# Altium integrated library NSC Switcher.IntLib: 2027 symbols (part 50 of 54)
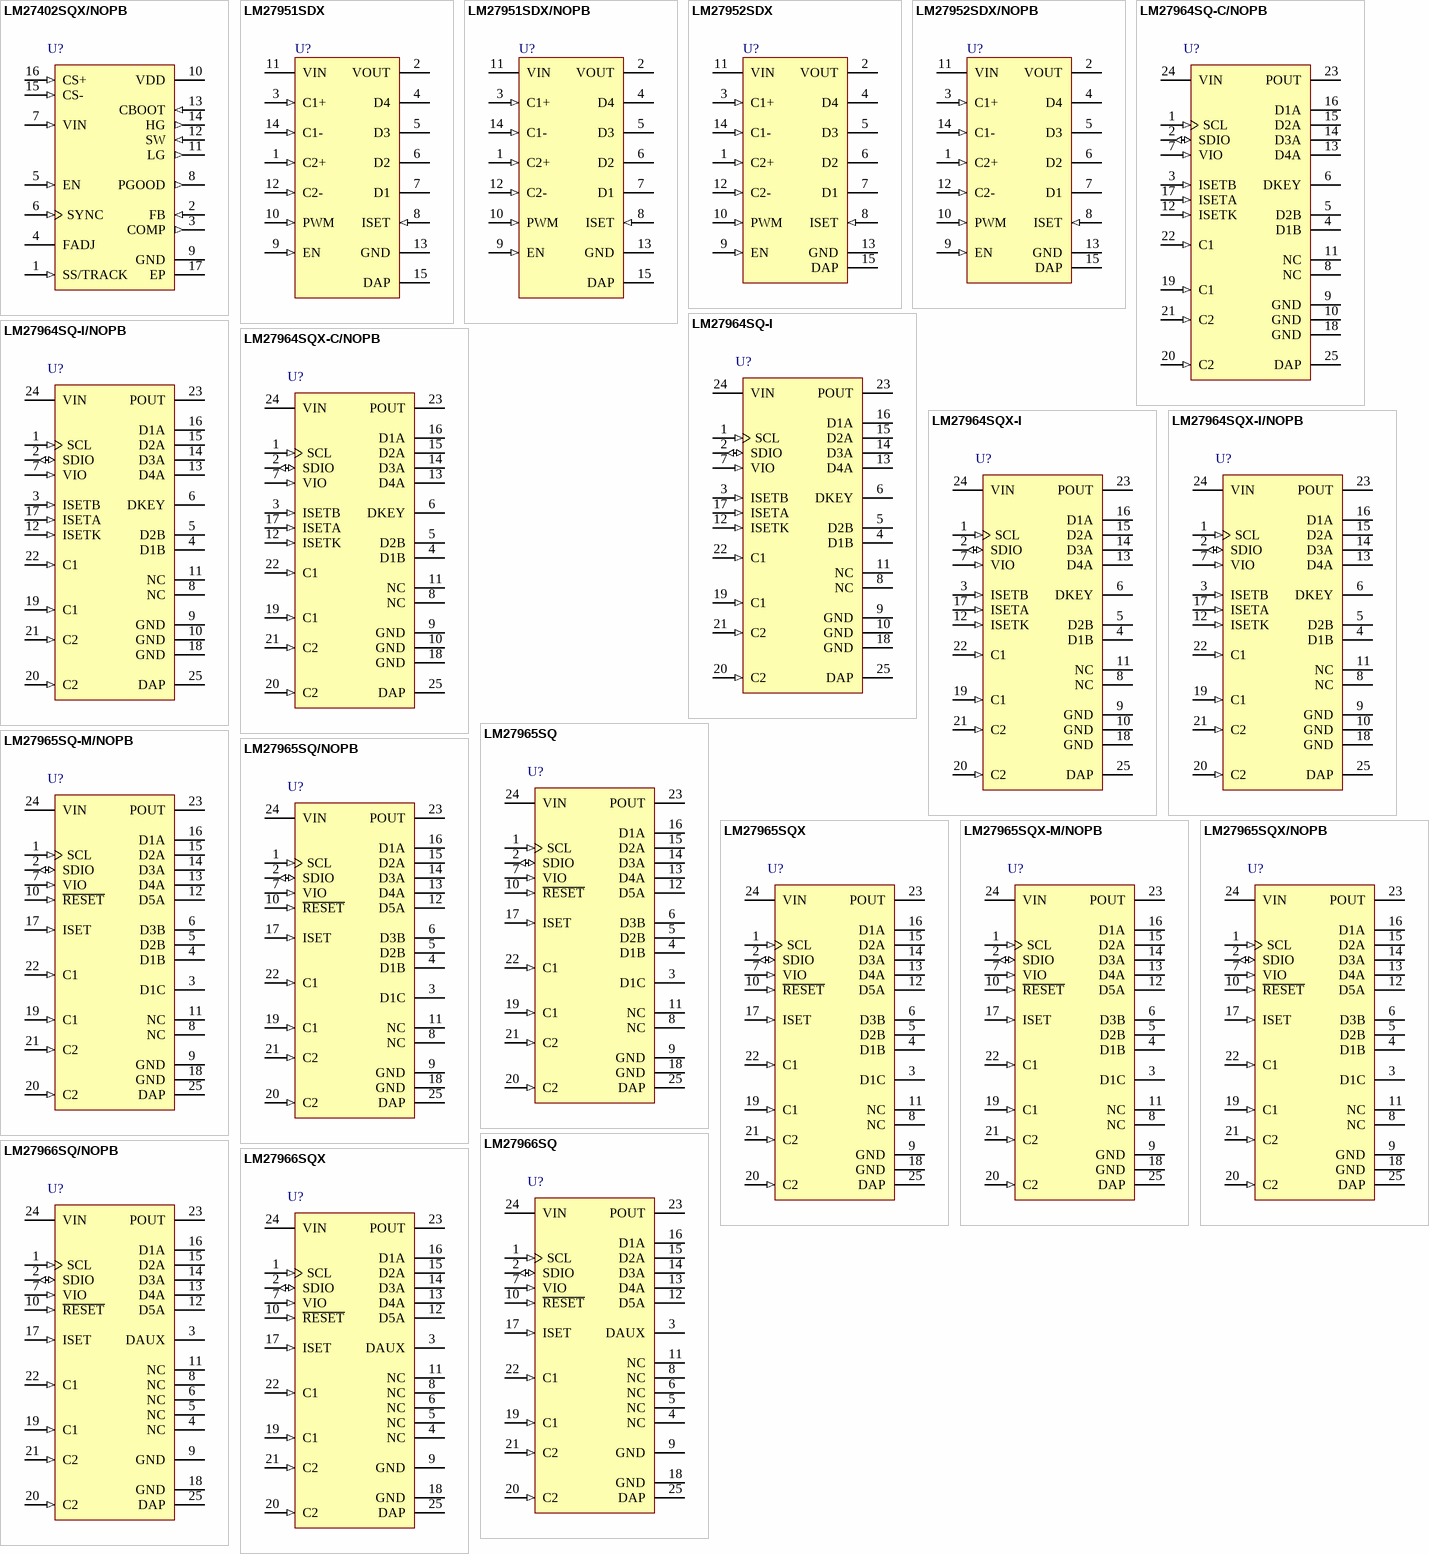
[diagram p112: symbols LM27402SQX/NOPB to LM27966SQX]

## LM27965SQX
designator U?
Dual Display White LED Driver with I2C Compatible Brightness Control, 24-pin LLP; PartNumber: LM27965SQX; Manufacturer: National Semiconductor; PackageTopMarking: NS*UZXYTT*L27965S; PowerWise: Y; CompType: Switcher; Published: 1-Mar-2010; DatasheetVersion: Oct-2007; PackageVersion: revB, Aug-2003; PackageReference: SQA24A; Publisher: Altium Limited; PackageDescription: LLP, Plastic, Quad, 4 x 4 x 0.8mm Body, 24 Lead, 0.5mm Pitch, No Pullback; RoHS: N; PinCount: 24; Code_JEDEC: MO-220-WGGD-6; ComponentLink1Description: LM27965 Datasheet; ComponentLink1URL: http://www.national.com/ds/LM/LM27965.pdf; ComponentLink2Description: LM27965 Web Page; ComponentLink2URL: http://www.national.com/pf/LM/LM27965.html; ComponentLink3Description: SQA24A Package Page; ComponentLink3URL: http://www.national.com/packaging/folders/sqa24a.html
footprint SQA24A (QFN, 24-Leads, Body 4x4mm, Pitch 0.5mm, NSC Recommended)
pins: 1 SCL (in), 2 SDIO (io), 3 D1C (oc), 4 D1B (oc), 5 D2B (oc), 6 D3B (oc), 7 VIO (in), 8 NC, 9 GND (power), 10 ~{RESET} (in), 11 NC, 12 D5A (oc), 13 D4A (oc), 14 D3A (oc), 15 D2A (oc), 16 D1A (oc), 17 ISET (in), 18 GND (power), 19 C1 (in), 20 C2 (in), 21 C2 (in), 22 C1 (in), 23 POUT (power), 24 VIN (power), 25 DAP (power)

## LM27965SQX-M/NOPB
designator U?
Dual Display White LED Driver with I2C Compatible Brightness Control, 24-pin LLP, Pb-Free; PartNumber: LM27965SQX-M/NOPB; Manufacturer: National Semiconductor; PackageTopMarking: NS*UZXYTT*27965M; PowerWise: N; CompType: Switcher; Published: 1-Mar-2010; DatasheetVersion: Oct-2007; PackageVersion: revB, Aug-2003; PackageReference: SQA24A; Publisher: Altium Limited; PackageDescription: LLP, Plastic, Quad, 4 x 4 x 0.8mm Body, 24 Lead, 0.5mm Pitch, No Pullback; Supplier 1: Digi-Key; Supplier Part Number 1: LM27965SQX-M-ND; RoHS: Y; PinCount: 24; Code_JEDEC: MO-220-WGGD-6; ComponentLink1Description: LM27965 Datasheet; ComponentLink1URL: http://www.national.com/ds/LM/LM27965.pdf; ComponentLink2Description: LM27965 Web Page; ComponentLink2URL: http://www.national.com/pf/LM/LM27965.html; ComponentLink3Description: SQA24A Package Page; ComponentLink3URL: http://www.national.com/packaging/folders/sqa24a.html
footprint SQA24A (QFN, 24-Leads, Body 4x4mm, Pitch 0.5mm, NSC Recommended)
pins: 1 SCL (in), 2 SDIO (io), 3 D1C (oc), 4 D1B (oc), 5 D2B (oc), 6 D3B (oc), 7 VIO (in), 8 NC, 9 GND (power), 10 ~{RESET} (in), 11 NC, 12 D5A (oc), 13 D4A (oc), 14 D3A (oc), 15 D2A (oc), 16 D1A (oc), 17 ISET (in), 18 GND (power), 19 C1 (in), 20 C2 (in), 21 C2 (in), 22 C1 (in), 23 POUT (power), 24 VIN (power), 25 DAP (power)

## LM27965SQX/NOPB
designator U?
Dual Display White LED Driver with I2C Compatible Brightness Control, 24-pin LLP, Pb-Free; PartNumber: LM27965SQX/NOPB; Manufacturer: National Semiconductor; PackageTopMarking: NS*UZXYTT*L27965S; PowerWise: Y; CompType: Switcher; Published: 1-Mar-2010; DatasheetVersion: Oct-2007; PackageVersion: revB, Aug-2003; PackageReference: SQA24A; Publisher: Altium Limited; PackageDescription: LLP, Plastic, Quad, 4 x 4 x 0.8mm Body, 24 Lead, 0.5mm Pitch, No Pullback; Supplier 1: Digi-Key; Supplier Part Number 1: LM27965SQX-ND; RoHS: Y; PinCount: 24; Code_JEDEC: MO-220-WGGD-6; ComponentLink1Description: LM27965 Datasheet; ComponentLink1URL: http://www.national.com/ds/LM/LM27965.pdf; ComponentLink2Description: LM27965 Web Page; ComponentLink2URL: http://www.national.com/pf/LM/LM27965.html; ComponentLink3Description: SQA24A Package Page; ComponentLink3URL: http://www.national.com/packaging/folders/sqa24a.html
footprint SQA24A (QFN, 24-Leads, Body 4x4mm, Pitch 0.5mm, NSC Recommended)
pins: 1 SCL (in), 2 SDIO (io), 3 D1C (oc), 4 D1B (oc), 5 D2B (oc), 6 D3B (oc), 7 VIO (in), 8 NC, 9 GND (power), 10 ~{RESET} (in), 11 NC, 12 D5A (oc), 13 D4A (oc), 14 D3A (oc), 15 D2A (oc), 16 D1A (oc), 17 ISET (in), 18 GND (power), 19 C1 (in), 20 C2 (in), 21 C2 (in), 22 C1 (in), 23 POUT (power), 24 VIN (power), 25 DAP (power)

## LM27966SQ
designator U?
White LED Driver with I2C Compatible Interface, 24-pin LLP; PartNumber: LM27966SQ; Manufacturer: National Semiconductor; PackageTopMarking: NS*UZXYTT*L27966S; PowerWise: Y; CompType: Switcher; Published: 4-Dec-2008; DatasheetVersion: Aug-2006; PackageVersion: revB, Aug-2003; PackageReference: SQA24A; Publisher: Altium Limited; PackageDescription: LLP, Plastic, Quad, 4 x 4 x 0.8mm Body, 24 Lead, 0.5mm Pitch, No Pullback; Supplier 1: Farnell; Supplier Part Number 1: 1271408; RoHS: N; PinCount: 24; Code_JEDEC: MO-220-WGGD-6; ComponentLink1Description: LM27966 Datasheet; ComponentLink1URL: http://www.national.com/ds/LM/LM27966.pdf; ComponentLink2Description: LM27966 Web Page; ComponentLink2URL: http://www.national.com/pf/LM/LM27966.html; ComponentLink3Description: SQA24A Package Page; ComponentLink3URL: http://www.national.com/packaging/folders/sqa24a.html
footprint SQA24A (QFN, 24-Leads, Body 4x4mm, Pitch 0.5mm, NSC Recommended)
pins: 1 SCL (in), 2 SDIO (io), 3 DAUX (oc), 4 NC, 5 NC, 6 NC, 7 VIO (in), 8 NC, 9 GND (power), 10 ~{RESET} (in), 11 NC, 12 D5A (oc), 13 D4A (oc), 14 D3A (oc), 15 D2A (oc), 16 D1A (oc), 17 ISET (in), 18 GND (power), 19 C1 (in), 20 C2 (in), 21 C2 (in), 22 C1 (in), 23 POUT (power), 24 VIN (power), 25 DAP (power)

## LM27966SQ/NOPB
designator U?
White LED Driver with I2C Compatible Interface, 24-pin LLP, Pb-Free; PartNumber: LM27966SQ/NOPB; Manufacturer: National Semiconductor; PackageTopMarking: NS*UZXYTT*L27966S; PowerWise: Y; CompType: Switcher; Published: 1-Mar-2010; DatasheetVersion: Aug-2006; PackageVersion: revB, Aug-2003; PackageReference: SQA24A; Publisher: Altium Limited; PackageDescription: LLP, Plastic, Quad, 4 x 4 x 0.8mm Body, 24 Lead, 0.5mm Pitch, No Pullback; Supplier 1: Digi-Key; Supplier Part Number 1: LM27966SQTR-ND; Supplier 2: Digi-Key; Supplier Part Number 2: LM27966SQCT-ND; Supplier 3: Digi-Key; Supplier Part Number 3: LM27966SQDKR-ND; RoHS: Y; PinCount: 24; Code_JEDEC: MO-220-WGGD-6; ComponentLink1Description: LM27966 Datasheet; ComponentLink1URL: http://www.national.com/ds/LM/LM27966.pdf; ComponentLink2Description: LM27966 Web Page; ComponentLink2URL: http://www.national.com/pf/LM/LM27966.html; ComponentLink3Description: SQA24A Package Page; ComponentLink3URL: http://www.national.com/packaging/folders/sqa24a.html
footprint SQA24A (QFN, 24-Leads, Body 4x4mm, Pitch 0.5mm, NSC Recommended)
pins: 1 SCL (in), 2 SDIO (io), 3 DAUX (oc), 4 NC, 5 NC, 6 NC, 7 VIO (in), 8 NC, 9 GND (power), 10 ~{RESET} (in), 11 NC, 12 D5A (oc), 13 D4A (oc), 14 D3A (oc), 15 D2A (oc), 16 D1A (oc), 17 ISET (in), 18 GND (power), 19 C1 (in), 20 C2 (in), 21 C2 (in), 22 C1 (in), 23 POUT (power), 24 VIN (power), 25 DAP (power)

## LM27966SQX
designator U?
White LED Driver with I2C Compatible Interface, 24-pin LLP; PartNumber: LM27966SQX; Manufacturer: National Semiconductor; PackageTopMarking: NS*UZXYTT*L27966S; PowerWise: Y; CompType: Switcher; Published: 1-Mar-2010; DatasheetVersion: Aug-2006; PackageVersion: revB, Aug-2003; PackageReference: SQA24A; Publisher: Altium Limited; PackageDescription: LLP, Plastic, Quad, 4 x 4 x 0.8mm Body, 24 Lead, 0.5mm Pitch, No Pullback; RoHS: N; PinCount: 24; Code_JEDEC: MO-220-WGGD-6; ComponentLink1Description: LM27966 Datasheet; ComponentLink1URL: http://www.national.com/ds/LM/LM27966.pdf; ComponentLink2Description: LM27966 Web Page; ComponentLink2URL: http://www.national.com/pf/LM/LM27966.html; ComponentLink3Description: SQA24A Package Page; ComponentLink3URL: http://www.national.com/packaging/folders/sqa24a.html
footprint SQA24A (QFN, 24-Leads, Body 4x4mm, Pitch 0.5mm, NSC Recommended)
pins: 1 SCL (in), 2 SDIO (io), 3 DAUX (oc), 4 NC, 5 NC, 6 NC, 7 VIO (in), 8 NC, 9 GND (power), 10 ~{RESET} (in), 11 NC, 12 D5A (oc), 13 D4A (oc), 14 D3A (oc), 15 D2A (oc), 16 D1A (oc), 17 ISET (in), 18 GND (power), 19 C1 (in), 20 C2 (in), 21 C2 (in), 22 C1 (in), 23 POUT (power), 24 VIN (power), 25 DAP (power)

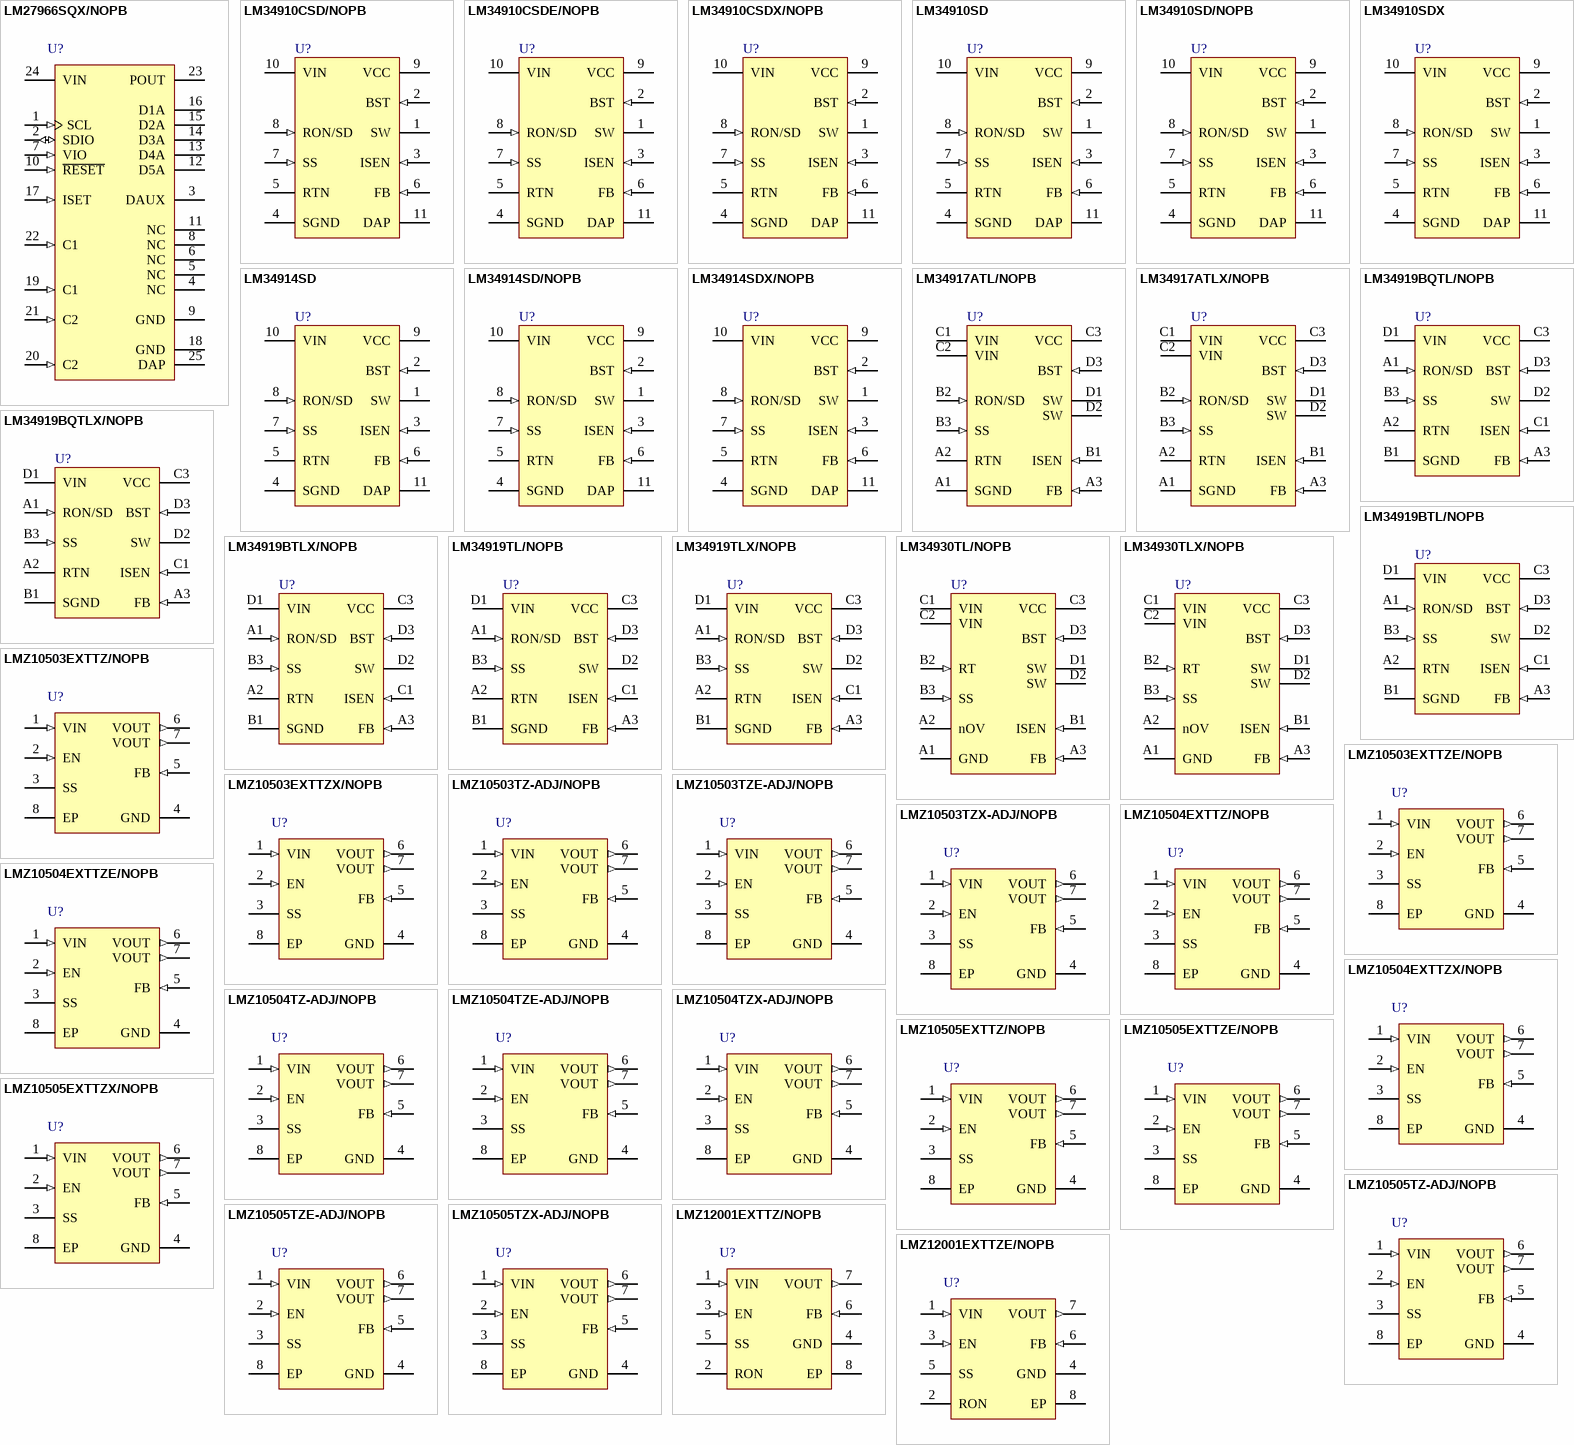
[diagram p57: symbols LM27966SQX/NOPB to LMZ12001EXTTZE/NOPB]

## LM27966SQX/NOPB
designator U?
White LED Driver with I2C Compatible Interface, 24-pin LLP, Pb-Free; PartNumber: LM27966SQX/NOPB; Manufacturer: National Semiconductor; PackageTopMarking: NS*UZXYTT*L27966S; PowerWise: Y; CompType: Switcher; Published: 1-Mar-2010; DatasheetVersion: Aug-2006; PackageVersion: revB, Aug-2003; PackageReference: SQA24A; Publisher: Altium Limited; PackageDescription: LLP, Plastic, Quad, 4 x 4 x 0.8mm Body, 24 Lead, 0.5mm Pitch, No Pullback; Supplier 1: Digi-Key; Supplier Part Number 1: LM27966SQX-ND; RoHS: Y; PinCount: 24; Code_JEDEC: MO-220-WGGD-6; ComponentLink1Description: LM27966 Datasheet; ComponentLink1URL: http://www.national.com/ds/LM/LM27966.pdf; ComponentLink2Description: LM27966 Web Page; ComponentLink2URL: http://www.national.com/pf/LM/LM27966.html; ComponentLink3Description: SQA24A Package Page; ComponentLink3URL: http://www.national.com/packaging/folders/sqa24a.html
footprint SQA24A (QFN, 24-Leads, Body 4x4mm, Pitch 0.5mm, NSC Recommended)
pins: 1 SCL (in), 2 SDIO (io), 3 DAUX (oc), 4 NC, 5 NC, 6 NC, 7 VIO (in), 8 NC, 9 GND (power), 10 ~{RESET} (in), 11 NC, 12 D5A (oc), 13 D4A (oc), 14 D3A (oc), 15 D2A (oc), 16 D1A (oc), 17 ISET (in), 18 GND (power), 19 C1 (in), 20 C2 (in), 21 C2 (in), 22 C1 (in), 23 POUT (power), 24 VIN (power), 25 DAP (power)

## LM34910CSD/NOPB
designator U?
High Voltage (50V, 1.25A) Step Down Switching Regulator, 10-pin LLP, Pb-Free; PartNumber: LM34910CSD/NOPB; Manufacturer: National Semiconductor; PackageTopMarking: NS*UZXYTT*L34910C; PowerWise: N; CompType: Switcher; Published: 1-Mar-2010; DatasheetVersion: Aug-2007; PackageVersion: revA, May-2003; PackageReference: SDC10A; Publisher: Altium Limited; PackageDescription: LLP, Plastic, Dual, 4 x 4 x 0.8mm Body, 10 Lead, 0.8mm Pitch, No Pullback; Supplier 1: Digi-Key; Supplier Part Number 1: LM34910CSDTR-ND; Supplier 2: Digi-Key; Supplier Part Number 2: LM34910CSDCT-ND; Supplier 3: Digi-Key; Supplier Part Number 3: LM34910CSDDKR-ND; RoHS: Y; PinCount: 10; ComponentLink1Description: LM34910C Datasheet; ComponentLink1URL: http://www.national.com/ds/LM/LM34910C.pdf; ComponentLink2Description: LM34910C Web Page; ComponentLink2URL: http://www.national.com/pf/LM/LM34910C.html; ComponentLink3Description: SDC10A Package Page; ComponentLink3URL: http://www.national.com/packaging/folders/sdc10a.html
footprint SDC10A (SON, 10-Leads, Body 4x4 mm, Pitch 0.8mm, NSC Recommended)
pins: 1 SW (power), 2 BST (in), 3 ISEN (in), 4 SGND (power), 5 RTN (power), 6 FB (in), 7 SS (in), 8 RON/SD (in), 9 VCC (power), 10 VIN (power), 11 DAP (power)

## LM34910CSDE/NOPB
designator U?
High Voltage (50V, 1.25A) Step Down Switching Regulator, 10-pin LLP, Pb-Free; PartNumber: LM34910CSDE/NOPB; Manufacturer: National Semiconductor; PackageTopMarking: NS*UZXYTT*L34910C; PowerWise: N; CompType: Switcher; Published: 1-Mar-2010; DatasheetVersion: Aug-2007; PackageVersion: revA, May-2003; PackageReference: SDC10A; Publisher: Altium Limited; PackageDescription: LLP, Plastic, Dual, 4 x 4 x 0.8mm Body, 10 Lead, 0.8mm Pitch, No Pullback; Supplier 1: Digi-Key; Supplier Part Number 1: LM34910CSDE-ND; RoHS: Y; PinCount: 10; ComponentLink1Description: LM34910C Datasheet; ComponentLink1URL: http://www.national.com/ds/LM/LM34910C.pdf; ComponentLink2Description: LM34910C Web Page; ComponentLink2URL: http://www.national.com/pf/LM/LM34910C.html; ComponentLink3Description: SDC10A Package Page; ComponentLink3URL: http://www.national.com/packaging/folders/sdc10a.html
footprint SDC10A (SON, 10-Leads, Body 4x4 mm, Pitch 0.8mm, NSC Recommended)
pins: 1 SW (power), 2 BST (in), 3 ISEN (in), 4 SGND (power), 5 RTN (power), 6 FB (in), 7 SS (in), 8 RON/SD (in), 9 VCC (power), 10 VIN (power), 11 DAP (power)

## LM34910CSDX/NOPB
designator U?
High Voltage (50V, 1.25A) Step Down Switching Regulator, 10-pin LLP, Pb-Free; PartNumber: LM34910CSDX/NOPB; Manufacturer: National Semiconductor; PackageTopMarking: NS*UZXYTT*L34910C; PowerWise: N; CompType: Switcher; Published: 1-Mar-2010; DatasheetVersion: Aug-2007; PackageVersion: revA, May-2003; PackageReference: SDC10A; Publisher: Altium Limited; PackageDescription: LLP, Plastic, Dual, 4 x 4 x 0.8mm Body, 10 Lead, 0.8mm Pitch, No Pullback; Supplier 1: Digi-Key; Supplier Part Number 1: LM34910CSDX-ND; RoHS: Y; PinCount: 10; ComponentLink1Description: LM34910C Datasheet; ComponentLink1URL: http://www.national.com/ds/LM/LM34910C.pdf; ComponentLink2Description: LM34910C Web Page; ComponentLink2URL: http://www.national.com/pf/LM/LM34910C.html; ComponentLink3Description: SDC10A Package Page; ComponentLink3URL: http://www.national.com/packaging/folders/sdc10a.html
footprint SDC10A (SON, 10-Leads, Body 4x4 mm, Pitch 0.8mm, NSC Recommended)
pins: 1 SW (power), 2 BST (in), 3 ISEN (in), 4 SGND (power), 5 RTN (power), 6 FB (in), 7 SS (in), 8 RON/SD (in), 9 VCC (power), 10 VIN (power), 11 DAP (power)

## LM34910SD
designator U?
High Voltage (40V, 1.25A) Step Down Switching Regulator, 10-pin LLP; PartNumber: LM34910SD; Manufacturer: National Semiconductor; PackageTopMarking: NS*UZXYTT*34910SD; PowerWise: N; CompType: Switcher; Published: 4-Dec-2008; DatasheetVersion: Feb-2005; PackageVersion: revA, May-2003; PackageReference: SDC10A; Publisher: Altium Limited; PackageDescription: LLP, Plastic, Dual, 4 x 4 x 0.8mm Body, 10 Lead, 0.8mm Pitch, No Pullback; Supplier 1: Farnell; Supplier Part Number 1: 1798321; RoHS: N; PinCount: 10; ComponentLink1Description: LM34910 Datasheet; ComponentLink1URL: http://www.national.com/ds/LM/LM34910.pdf; ComponentLink2Description: LM34910 Web Page; ComponentLink2URL: http://www.national.com/pf/LM/LM34910.html; ComponentLink3Description: SDC10A Package Page; ComponentLink3URL: http://www.national.com/packaging/folders/sdc10a.html
footprint SDC10A (SON, 10-Leads, Body 4x4 mm, Pitch 0.8mm, NSC Recommended)
pins: 1 SW (power), 2 BST (in), 3 ISEN (in), 4 SGND (power), 5 RTN (power), 6 FB (in), 7 SS (in), 8 RON/SD (in), 9 VCC (power), 10 VIN (power), 11 DAP (power)

## LM34910SD/NOPB
designator U?
High Voltage (40V, 1.25A) Step Down Switching Regulator, 10-pin LLP, Pb-Free; PartNumber: LM34910SD/NOPB; Manufacturer: National Semiconductor; PackageTopMarking: NS*UZXYTT*34910SD; PowerWise: N; CompType: Switcher; Published: 1-Mar-2010; DatasheetVersion: Feb-2005; PackageVersion: revA, May-2003; PackageReference: SDC10A; Publisher: Altium Limited; PackageDescription: LLP, Plastic, Dual, 4 x 4 x 0.8mm Body, 10 Lead, 0.8mm Pitch, No Pullback; Supplier 1: Digi-Key; Supplier Part Number 1: LM34910SDTR-ND; Supplier 2: Digi-Key; Supplier Part Number 2: LM34910SDCT-ND; Supplier 3: Digi-Key; Supplier Part Number 3: LM34910SDDKR-ND; RoHS: Y; PinCount: 10; ComponentLink1Description: LM34910 Datasheet; ComponentLink1URL: http://www.national.com/ds/LM/LM34910.pdf; ComponentLink2Description: LM34910 Web Page; ComponentLink2URL: http://www.national.com/pf/LM/LM34910.html; ComponentLink3Description: SDC10A Package Page; ComponentLink3URL: http://www.national.com/packaging/folders/sdc10a.html
footprint SDC10A (SON, 10-Leads, Body 4x4 mm, Pitch 0.8mm, NSC Recommended)
pins: 1 SW (power), 2 BST (in), 3 ISEN (in), 4 SGND (power), 5 RTN (power), 6 FB (in), 7 SS (in), 8 RON/SD (in), 9 VCC (power), 10 VIN (power), 11 DAP (power)

## LM34910SDX
designator U?
High Voltage (40V, 1.25A) Step Down Switching Regulator, 10-pin LLP; PartNumber: LM34910SDX; Manufacturer: National Semiconductor; PackageTopMarking: NS*UZXYTT*34910SD; PowerWise: N; CompType: Switcher; Published: 1-Mar-2010; DatasheetVersion: Feb-2005; PackageVersion: revA, May-2003; PackageReference: SDC10A; Publisher: Altium Limited; PackageDescription: LLP, Plastic, Dual, 4 x 4 x 0.8mm Body, 10 Lead, 0.8mm Pitch, No Pullback; RoHS: N; PinCount: 10; ComponentLink1Description: LM34910 Datasheet; ComponentLink1URL: http://www.national.com/ds/LM/LM34910.pdf; ComponentLink2Description: LM34910 Web Page; ComponentLink2URL: http://www.national.com/pf/LM/LM34910.html; ComponentLink3Description: SDC10A Package Page; ComponentLink3URL: http://www.national.com/packaging/folders/sdc10a.html
footprint SDC10A (SON, 10-Leads, Body 4x4 mm, Pitch 0.8mm, NSC Recommended)
pins: 1 SW (power), 2 BST (in), 3 ISEN (in), 4 SGND (power), 5 RTN (power), 6 FB (in), 7 SS (in), 8 RON/SD (in), 9 VCC (power), 10 VIN (power), 11 DAP (power)

## LM34914SD
designator U?
Ultra Small 1.25A Step-Down Switching Regulator with Intelligent Current Limit, 10-pin LLP; PartNumber: LM34914SD; Manufacturer: National Semiconductor; PackageTopMarking: ZXYTT*34914; PowerWise: N; CompType: Switcher; Published: 4-Dec-2008; DatasheetVersion: Dec-2007; PackageVersion: revA, Oct-2003; PackageReference: SDA10A; Publisher: Altium Limited; PackageDescription: LLP, Plastic, Dual, 3 x 3 x 0.8mm Body, 10 Lead, 0.5mm Pitch, No Pullback; Supplier 1: Farnell; Supplier Part Number 1: 1313856; RoHS: Y; PinCount: 10; ComponentLink1Description: LM34914 Datasheet; ComponentLink1URL: http://www.national.com/ds/LM/LM34914.pdf; ComponentLink2Description: LM34914 Web Page; ComponentLink2URL: http://www.national.com/pf/LM/LM34914.html; ComponentLink3Description: SDA10A Package Page; ComponentLink3URL: http://www.national.com/packaging/folders/sda10a.html
footprint SDA10A (SON, 10-Leads, Body 3x3 mm, Pitch 0.5mm, NSC Recommended)
pins: 1 SW (power), 2 BST (in), 3 ISEN (in), 4 SGND (power), 5 RTN (power), 6 FB (in), 7 SS (in), 8 RON/SD (in), 9 VCC (power), 10 VIN (power), 11 DAP (power)

## LM34914SD/NOPB
designator U?
Ultra Small 1.25A Step-Down Switching Regulator with Intelligent Current Limit, 10-pin LLP, Pb-Free; PartNumber: LM34914SD/NOPB; Manufacturer: National Semiconductor; PackageTopMarking: ZXYTT*34914; PowerWise: N; CompType: Switcher; Published: 1-Mar-2010; DatasheetVersion: Dec-2007; PackageVersion: revA, Oct-2003; PackageReference: SDA10A; Publisher: Altium Limited; PackageDescription: LLP, Plastic, Dual, 3 x 3 x 0.8mm Body, 10 Lead, 0.5mm Pitch, No Pullback; Supplier 1: Digi-Key; Supplier Part Number 1: LM34914SDTR-ND; Supplier 2: Digi-Key; Supplier Part Number 2: LM34914SDCT-ND; Supplier 3: Digi-Key; Supplier Part Number 3: LM34914SDDKR-ND; RoHS: Y; PinCount: 10; ComponentLink1Description: LM34914 Datasheet; ComponentLink1URL: http://www.national.com/ds/LM/LM34914.pdf; ComponentLink2Description: LM34914 Web Page; ComponentLink2URL: http://www.national.com/pf/LM/LM34914.html; ComponentLink3Description: SDA10A Package Page; ComponentLink3URL: http://www.national.com/packaging/folders/sda10a.html
footprint SDA10A (SON, 10-Leads, Body 3x3 mm, Pitch 0.5mm, NSC Recommended)
pins: 1 SW (power), 2 BST (in), 3 ISEN (in), 4 SGND (power), 5 RTN (power), 6 FB (in), 7 SS (in), 8 RON/SD (in), 9 VCC (power), 10 VIN (power), 11 DAP (power)

## LM34914SDX/NOPB
designator U?
Ultra Small 1.25A Step-Down Switching Regulator with Intelligent Current Limit, 10-pin LLP, Pb-Free; PartNumber: LM34914SDX/NOPB; Manufacturer: National Semiconductor; PackageTopMarking: ZXYTT*34914; PowerWise: N; CompType: Switcher; Published: 1-Mar-2010; DatasheetVersion: Dec-2007; PackageVersion: revA, Oct-2003; PackageReference: SDA10A; Publisher: Altium Limited; PackageDescription: LLP, Plastic, Dual, 3 x 3 x 0.8mm Body, 10 Lead, 0.5mm Pitch, No Pullback; Supplier 1: Digi-Key; Supplier Part Number 1: LM34914SDX-ND; RoHS: Y; PinCount: 10; ComponentLink1Description: LM34914 Datasheet; ComponentLink1URL: http://www.national.com/ds/LM/LM34914.pdf; ComponentLink2Description: LM34914 Web Page; ComponentLink2URL: http://www.national.com/pf/LM/LM34914.html; ComponentLink3Description: SDA10A Package Page; ComponentLink3URL: http://www.national.com/packaging/folders/sda10a.html
footprint SDA10A (SON, 10-Leads, Body 3x3 mm, Pitch 0.5mm, NSC Recommended)
pins: 1 SW (power), 2 BST (in), 3 ISEN (in), 4 SGND (power), 5 RTN (power), 6 FB (in), 7 SS (in), 8 RON/SD (in), 9 VCC (power), 10 VIN (power), 11 DAP (power)

## LM34917ATL/NOPB
designator U?
Ultra Small 33V, 1.25A Constant On-Time Buck Switching Regulator with Intelligent Current Limit, 12-pin Micro SMD, Pb-Free; PartNumber: LM34917ATL/NOPB; Manufacturer: National Semiconductor; PackageTopMarking: XYTT*I SRHA; PowerWise: Y; CompType: Switcher; Published: 1-Mar-2010; DatasheetVersion: May-2008; PackageVersion: revC, Jan-2004; PackageReference: TLA12UNA; Publisher: Altium Limited; PackageDescription: Thin Micro SMD, 12 Bump (Large), Area Array, 0.5mm Pitch; Supplier 1: Digi-Key; Supplier Part Number 1: LM34917ATLTR-ND; Supplier 2: Digi-Key; Supplier Part Number 2: LM34917ATLCT-ND; Supplier 3: Digi-Key; Supplier Part Number 3: LM34917ATLDKR-ND; RoHS: Y; PinCount: 12; Code_JEDEC: MO-211-DE; ComponentLink1Description: LM34917A Datasheet; ComponentLink1URL: http://www.national.com/ds/LM/LM34917A.pdf; ComponentLink2Description: LM34917A Web Page; ComponentLink2URL: http://www.national.com/pf/LM/LM34917A.html; ComponentLink3Description: TLA12UNA Package Page; ComponentLink3URL: http://www.national.com/packaging/folders/tla12una.html
footprint TLA12UNA (Micro SMD, 12-Leads, Body 2.3x1.97mm, Pitch 0.5mm, NSC Recommended)
pins: A1 SGND (power), A2 RTN (power), A3 FB (in), B1 ISEN (in), B2 RON/SD (in), B3 SS (in), C1 VIN (power), C2 VIN (power), C3 VCC (power), D1 SW (power), D2 SW (power), D3 BST (in)

## LM34917ATLX/NOPB
designator U?
Ultra Small 33V, 1.25A Constant On-Time Buck Switching Regulator with Intelligent Current Limit, 12-pin Micro SMD, Pb-Free; PartNumber: LM34917ATLX/NOPB; Manufacturer: National Semiconductor; PackageTopMarking: XYTT*I SRHA; PowerWise: Y; CompType: Switcher; Published: 1-Mar-2010; DatasheetVersion: May-2008; PackageVersion: revC, Jan-2004; PackageReference: TLA12UNA; Publisher: Altium Limited; PackageDescription: Thin Micro SMD, 12 Bump (Large), Area Array, 0.5mm Pitch; Supplier 1: Digi-Key; Supplier Part Number 1: LM34917ATLX-ND; RoHS: Y; PinCount: 12; Code_JEDEC: MO-211-DE; ComponentLink1Description: LM34917A Datasheet; ComponentLink1URL: http://www.national.com/ds/LM/LM34917A.pdf; ComponentLink2Description: LM34917A Web Page; ComponentLink2URL: http://www.national.com/pf/LM/LM34917A.html; ComponentLink3Description: TLA12UNA Package Page; ComponentLink3URL: http://www.national.com/packaging/folders/tla12una.html
footprint TLA12UNA (Micro SMD, 12-Leads, Body 2.3x1.97mm, Pitch 0.5mm, NSC Recommended)
pins: A1 SGND (power), A2 RTN (power), A3 FB (in), B1 ISEN (in), B2 RON/SD (in), B3 SS (in), C1 VIN (power), C2 VIN (power), C3 VCC (power), D1 SW (power), D2 SW (power), D3 BST (in)

## LM34919BQTL/NOPB
designator U?
Ultra Small 40V, 600 mA Constant On-Time Buck Switching Regulator, 10 pin MICRO SMD; PartNumber: LM34919BQTL/NOPB; Manufacturer: National Semiconductor; PackageTopMarking: XYTT*I SZRB; PowerWise: Y; CompType: Switcher; Published: 16-Nov-2010; DatasheetVersion: May-2010; PackageVersion: revD, Mar-2004; PackageReference: TLP10KAA; Publisher: Altium Limited; PackageDescription: Thin Micro SMD, 10 Bump (Large), Peripheral, 0.5mm Pitch; Supplier 1: Digi-Key; Supplier Part Number 1: LM34919BQTL/NOPBTR-ND; Supplier 2: Digi-Key; Supplier Part Number 2: LM34919BQTL/NOPBCT-ND; Supplier 3: Digi-Key; Supplier Part Number 3: LM34919BQTL/NOPBDKR-ND; RoHS: Y; PinCount: 10; Code_JEDEC: MO-211-BD; ComponentLink1Description: LM34919B Datasheet; ComponentLink1URL: http://www.national.com/ds/LM/LM34919B.pdf; ComponentLink2Description: LM34919B Web Page; ComponentLink2URL: http://www.national.com/pf/LM/LM34919B.html
footprint TLP10KAA (Micro SMD, 10-Leads, Body 2x1.74mm, Pitch 0.5mm, NSC Recommended)
pins: A1 RON/SD (in), A2 RTN (power), A3 FB (in), B1 SGND (power), B3 SS (in), C1 ISEN (in), C3 VCC (power), D1 VIN (power), D2 SW (power), D3 BST (in)

## LM34919BQTLX/NOPB
designator U?
Ultra Small 40V, 600 mA Constant On-Time Buck Switching Regulator, 10 pin MICRO SMD; PartNumber: LM34919BQTLX/NOPB; Manufacturer: National Semiconductor; PackageTopMarking: XYTT*I SZRB; PowerWise: Y; CompType: Switcher; Published: 16-Nov-2010; DatasheetVersion: May-2010; PackageVersion: revD, Mar-2004; PackageReference: TLP10KAA; Publisher: Altium Limited; PackageDescription: Thin Micro SMD, 10 Bump (Large), Peripheral, 0.5mm Pitch; RoHS: Y; PinCount: 10; Code_JEDEC: MO-211-BD; ComponentLink1Description: LM34919B Datasheet; ComponentLink1URL: http://www.national.com/ds/LM/LM34919B.pdf; ComponentLink2Description: LM34919B Web Page; ComponentLink2URL: http://www.national.com/pf/LM/LM34919B.html
footprint TLP10KAA (Micro SMD, 10-Leads, Body 2x1.74mm, Pitch 0.5mm, NSC Recommended)
pins: A1 RON/SD (in), A2 RTN (power), A3 FB (in), B1 SGND (power), B3 SS (in), C1 ISEN (in), C3 VCC (power), D1 VIN (power), D2 SW (power), D3 BST (in)

## LM34919BTL/NOPB
designator U?
Ultra Small 40V, 600 mA Constant On-Time Buck Switching Regulator, 10 pin MICRO SMD; PartNumber: LM34919BTL/NOPB; Manufacturer: National Semiconductor; PackageTopMarking: XYTT*I SZCB; PowerWise: Y; CompType: Switcher; Published: 16-Nov-2010; DatasheetVersion: May-2010; PackageVersion: revD, Mar-2004; PackageReference: TLP10KAA; Publisher: Altium Limited; PackageDescription: Thin Micro SMD, 10 Bump (Large), Peripheral, 0.5mm Pitch; Supplier 1: Digi-Key; Supplier Part Number 1: LM34919BTL/NOPBTR-ND; Supplier 2: Digi-Key; Supplier Part Number 2: LM34919BTL/NOPBCT-ND; Supplier 3: Digi-Key; Supplier Part Number 3: LM34919BTL/NOPBDKR-ND; Supplier 4: Farnell; Supplier Part Number 4: 1835821; RoHS: Y; PinCount: 10; Code_JEDEC: MO-211-BD; ComponentLink1Description: LM34919B Datasheet; ComponentLink1URL: http://www.national.com/ds/LM/LM34919B.pdf; ComponentLink2Description: LM34919B Web Page; ComponentLink2URL: http://www.national.com/pf/LM/LM34919B.html
footprint TLP10KAA (Micro SMD, 10-Leads, Body 2x1.74mm, Pitch 0.5mm, NSC Recommended)
pins: A1 RON/SD (in), A2 RTN (power), A3 FB (in), B1 SGND (power), B3 SS (in), C1 ISEN (in), C3 VCC (power), D1 VIN (power), D2 SW (power), D3 BST (in)

## LM34919BTLX/NOPB
designator U?
Ultra Small 40V, 600 mA Constant On-Time Buck Switching Regulator, 10 pin MICRO SMD; PartNumber: LM34919BTLX/NOPB; Manufacturer: National Semiconductor; PackageTopMarking: XYTT*I SZCB; PowerWise: Y; CompType: Switcher; Published: 16-Nov-2010; DatasheetVersion: May-2010; PackageVersion: revD, Mar-2004; PackageReference: TLP10KAA; Publisher: Altium Limited; PackageDescription: Thin Micro SMD, 10 Bump (Large), Peripheral, 0.5mm Pitch; Supplier 1: Digi-Key; Supplier Part Number 1: LM34919BTLX/NOPB-ND; RoHS: Y; PinCount: 10; Code_JEDEC: MO-211-BD; ComponentLink1Description: LM34919B Datasheet; ComponentLink1URL: http://www.national.com/ds/LM/LM34919B.pdf; ComponentLink2Description: LM34919B Web Page; ComponentLink2URL: http://www.national.com/pf/LM/LM34919B.html
footprint TLP10KAA (Micro SMD, 10-Leads, Body 2x1.74mm, Pitch 0.5mm, NSC Recommended)
pins: A1 RON/SD (in), A2 RTN (power), A3 FB (in), B1 SGND (power), B3 SS (in), C1 ISEN (in), C3 VCC (power), D1 VIN (power), D2 SW (power), D3 BST (in)

## LM34919TL/NOPB
designator U?
Ultra Small 40V, 600 mA Constant On-Time Buck Switching Regulator, 10-pin Micro SMD, Pb-Free; PartNumber: LM34919TL/NOPB; Manufacturer: National Semiconductor; PackageTopMarking: XYTT*I SRYB; PowerWise: Y; CompType: Switcher; Published: 1-Mar-2010; DatasheetVersion: Jun-2008; PackageVersion: revD, Mar-2004; PackageReference: TLP10A1A; Publisher: Altium Limited; PackageDescription: Thin Micro SMD, 10 Bump (Large), Periperal, 0.5mm Pitch; Supplier 1: Digi-Key; Supplier Part Number 1: LM34919TLTR-ND; Supplier 2: Digi-Key; Supplier Part Number 2: LM34919TLCT-ND; Supplier 3: Digi-Key; Supplier Part Number 3: LM34919TLDKR-ND; RoHS: Y; PinCount: 10; Code_JEDEC: MO-211-BD; ComponentLink1Description: LM34919 Datasheet; ComponentLink1URL: http://www.national.com/ds/LM/LM34919.pdf; ComponentLink2Description: LM34919 Web Page; ComponentLink2URL: http://www.national.com/pf/LM/LM34919.html; ComponentLink3Description: TLP10A1A Package Page; ComponentLink3URL: http://www.national.com/packaging/folders/tlp10a1a.html
footprint TLP10A1A (Micro SMD, 10-Leads, Body 1.97x1.51mm, Pitch 0.5mm, NSC Recommended)
pins: A1 RON/SD (in), A2 RTN (power), A3 FB (in), B1 SGND (power), B3 SS (in), C1 ISEN (in), C3 VCC (power), D1 VIN (power), D2 SW (power), D3 BST (in)

## LM34919TLX/NOPB
designator U?
Ultra Small 40V, 600 mA Constant On-Time Buck Switching Regulator, 10-pin Micro SMD, Pb-Free; PartNumber: LM34919TLX/NOPB; Manufacturer: National Semiconductor; PackageTopMarking: XYTT*I SRYB; PowerWise: Y; CompType: Switcher; Published: 1-Mar-2010; DatasheetVersion: Jun-2008; PackageVersion: revD, Mar-2004; PackageReference: TLP10A1A; Publisher: Altium Limited; PackageDescription: Thin Micro SMD, 10 Bump (Large), Periperal, 0.5mm Pitch; Supplier 1: Digi-Key; Supplier Part Number 1: LM34919TLX-ND; RoHS: Y; PinCount: 10; Code_JEDEC: MO-211-BD; ComponentLink1Description: LM34919 Datasheet; ComponentLink1URL: http://www.national.com/ds/LM/LM34919.pdf; ComponentLink2Description: LM34919 Web Page; ComponentLink2URL: http://www.national.com/pf/LM/LM34919.html; ComponentLink3Description: TLP10A1A Package Page; ComponentLink3URL: http://www.national.com/packaging/folders/tlp10a1a.html
footprint TLP10A1A (Micro SMD, 10-Leads, Body 1.97x1.51mm, Pitch 0.5mm, NSC Recommended)
pins: A1 RON/SD (in), A2 RTN (power), A3 FB (in), B1 SGND (power), B3 SS (in), C1 ISEN (in), C3 VCC (power), D1 VIN (power), D2 SW (power), D3 BST (in)

## LM34930TL/NOPB
designator U?
Ultra Small 33V, 1A Constant On-Time Buck Switching Regulator with Intelligent Current Limit, 12-pin Micro SMD, Pb-Free; PartNumber: LM34930TL/NOPB; Manufacturer: National Semiconductor; PackageTopMarking: XYTT*I STCB; PowerWise: Y; CompType: Switcher; Published: 1-Mar-2010; DatasheetVersion: Jun-2008; PackageVersion: revC, Jan-2004; PackageReference: TLA12LDA; Publisher: Altium Limited; PackageDescription: Thin Micro SMD, 12 Bump (Large), Area Array, 0.5mm Pitch; Supplier 1: Digi-Key; Supplier Part Number 1: LM34930TLTR-ND; Supplier 2: Digi-Key; Supplier Part Number 2: LM34930TLCT-ND; Supplier 3: Digi-Key; Supplier Part Number 3: LM34930TLDKR-ND; RoHS: Y; PinCount: 12; Code_JEDEC: MO-211-DE; ComponentLink1Description: LM34930 Datasheet; ComponentLink1URL: http://www.national.com/ds/LM/LM34930.pdf; ComponentLink2Description: LM34930 Web Page; ComponentLink2URL: http://www.national.com/pf/LM/LM34930.html; ComponentLink3Description: TLA12LDA Package Page; ComponentLink3URL: http://www.national.com/packaging/folders/tla12lda.html
footprint TLA12LDA (Micro SMD, 12-Leads, Body 2.07x1.77mm, Pitch 0.5mm, NSC Recommended)
pins: A1 GND (power), A2 nOV (oc), A3 FB (in), B1 ISEN (in), B2 RT (in), B3 SS (in), C1 VIN (power), C2 VIN (power), C3 VCC (power), D1 SW (power), D2 SW (power), D3 BST (in)

## LM34930TLX/NOPB
designator U?
Ultra Small 33V, 1A Constant On-Time Buck Switching Regulator with Intelligent Current Limit, 12-pin Micro SMD, Pb-Free; PartNumber: LM34930TLX/NOPB; Manufacturer: National Semiconductor; PackageTopMarking: XYTT*I STCB; PowerWise: Y; CompType: Switcher; Published: 1-Mar-2010; DatasheetVersion: Jun-2008; PackageVersion: revC, Jan-2004; PackageReference: TLA12LDA; Publisher: Altium Limited; PackageDescription: Thin Micro SMD, 12 Bump (Large), Area Array, 0.5mm Pitch; Supplier 1: Digi-Key; Supplier Part Number 1: LM34930TLX-ND; RoHS: Y; PinCount: 12; Code_JEDEC: MO-211-DE; ComponentLink1Description: LM34930 Datasheet; ComponentLink1URL: http://www.national.com/ds/LM/LM34930.pdf; ComponentLink2Description: LM34930 Web Page; ComponentLink2URL: http://www.national.com/pf/LM/LM34930.html; ComponentLink3Description: TLA12LDA Package Page; ComponentLink3URL: http://www.national.com/packaging/folders/tla12lda.html
footprint TLA12LDA (Micro SMD, 12-Leads, Body 2.07x1.77mm, Pitch 0.5mm, NSC Recommended)
pins: A1 GND (power), A2 nOV (oc), A3 FB (in), B1 ISEN (in), B2 RT (in), B3 SS (in), C1 VIN (power), C2 VIN (power), C3 VCC (power), D1 SW (power), D2 SW (power), D3 BST (in)

## LMZ10503EXTTZ/NOPB
designator U?
3A SIMPLE SWITCHER® Power Module with 5.5V Maximum Input Voltage for Military and Rugged Applications, 7 pin TO-PMOD; PartNumber: LMZ10503EXTTZ/NOPB; Manufacturer: National Semiconductor; PackageTopMarking: NSUZXYTTE#*LMZ10503*EXT; PowerWise: Y; Published: 16-Nov-2010; DatasheetVersion: Jul-2010; PackageVersion: revC, 2009; PackageReference: TZA07A; Publisher: Altium Limited; PackageDescription: TO-PMOD-7, 10.16 x 13.77 x 4.57 mm Body, 7 Lead, 1.27mm Pitch, Surface Mount; Supplier 1: Digi-Key; Supplier Part Number 1: LMZ10503EXTTZ/NOPBTR-ND; Supplier 2: Digi-Key; Supplier Part Number 2: LMZ10503EXTTZ/NOPBCT-ND; Supplier 3: Digi-Key; Supplier Part Number 3: LMZ10503EXTTZ/NOPBDKR-ND; RoHS: Y; PinCount: 7; CompType: Switcher; ComponentLink1Description: LMZ10503EXT Datasheet; ComponentLink1URL: http://www.national.com/ds/LM/LMZ10503EXT.pdf; ComponentLink2Description: LMZ10503EXT Web Page; ComponentLink2URL: http://www.national.com/pf/LM/LMZ10503EXT.html; ComponentLink3Description: TZA07A Package Page; ComponentLink3URL: http://www.national.com/packaging/folders/tza07a.html
footprint TZA07A_V (D2-PAK, 8-Leads, Body 9.9x10.2mm, Pitch 1.27mm, Lead Span 13.8mm, NSC Recommended)
pins: 1 VIN (in), 2 EN (in), 3 SS, 4 GND (power), 5 FB (in), 6 VOUT (out), 7 VOUT (out), 8 EP

## LMZ10503EXTTZE/NOPB
designator U?
3A SIMPLE SWITCHER® Power Module with 5.5V Maximum Input Voltage for Military and Rugged Applications, 7 pin TO-PMOD; PartNumber: LMZ10503EXTTZE/NOPB; Manufacturer: National Semiconductor; PackageTopMarking: NSUZXYTTE#*LMZ10503*EXT; PowerWise: Y; Published: 16-Nov-2010; DatasheetVersion: Jul-2010; PackageVersion: revC, 2009; PackageReference: TZA07A; Publisher: Altium Limited; PackageDescription: TO-PMOD-7, 10.16 x 13.77 x 4.57 mm Body, 7 Lead, 1.27mm Pitch, Surface Mount; Supplier 1: Digi-Key; Supplier Part Number 1: LMZ10503EXTTZE/NOPB-ND; RoHS: Y; PinCount: 7; CompType: Switcher; ComponentLink1Description: LMZ10503EXT Datasheet; ComponentLink1URL: http://www.national.com/ds/LM/LMZ10503EXT.pdf; ComponentLink2Description: LMZ10503EXT Web Page; ComponentLink2URL: http://www.national.com/pf/LM/LMZ10503EXT.html; ComponentLink3Description: TZA07A Package Page; ComponentLink3URL: http://www.national.com/packaging/folders/tza07a.html
footprint TZA07A_V (D2-PAK, 8-Leads, Body 9.9x10.2mm, Pitch 1.27mm, Lead Span 13.8mm, NSC Recommended)
pins: 1 VIN (in), 2 EN (in), 3 SS, 4 GND (power), 5 FB (in), 6 VOUT (out), 7 VOUT (out), 8 EP

## LMZ10503EXTTZX/NOPB
designator U?
3A SIMPLE SWITCHER® Power Module with 5.5V Maximum Input Voltage for Military and Rugged Applications, 7 pin TO-PMOD; PartNumber: LMZ10503EXTTZX/NOPB; Manufacturer: National Semiconductor; PackageTopMarking: NSUZXYTTE#*LMZ10503*EXT; PowerWise: Y; Published: 16-Nov-2010; DatasheetVersion: Jul-2010; PackageVersion: revC, 2009; PackageReference: TZA07A; Publisher: Altium Limited; PackageDescription: TO-PMOD-7, 10.16 x 13.77 x 4.57 mm Body, 7 Lead, 1.27mm Pitch, Surface Mount; Supplier 1: Digi-Key; Supplier Part Number 1: LMZ10503EXTTZX/NOPB-ND; RoHS: Y; PinCount: 7; CompType: Switcher; ComponentLink1Description: LMZ10503EXT Datasheet; ComponentLink1URL: http://www.national.com/ds/LM/LMZ10503EXT.pdf; ComponentLink2Description: LMZ10503EXT Web Page; ComponentLink2URL: http://www.national.com/pf/LM/LMZ10503EXT.html; ComponentLink3Description: TZA07A Package Page; ComponentLink3URL: http://www.national.com/packaging/folders/tza07a.html
footprint TZA07A_V (D2-PAK, 8-Leads, Body 9.9x10.2mm, Pitch 1.27mm, Lead Span 13.8mm, NSC Recommended)
pins: 1 VIN (in), 2 EN (in), 3 SS, 4 GND (power), 5 FB (in), 6 VOUT (out), 7 VOUT (out), 8 EP

## LMZ10503TZ-ADJ/NOPB
designator U?
3A, SIMPLE SWITCHER® Power Module with 5.5V Maximum Input, 7 pin TO-PMOD; PartNumber: LMZ10503TZ-ADJ/NOPB; Manufacturer: National Semiconductor; PackageTopMarking: NSUZXYTTE#*LMZ10503*TZ-ADJ; PowerWise: Y; Published: 16-Nov-2010; DatasheetVersion: Jun-2010; PackageVersion: revC, 2009; PackageReference: TZA07A; Publisher: Altium Limited; PackageDescription: TO-PMOD-7, 10.16 x 13.77 x 4.57 mm Body, 7 Lead, 1.27mm Pitch, Surface Mount; Supplier 1: Digi-Key; Supplier Part Number 1: LMZ10503TZ-ADJTR-ND; Supplier 2: Digi-Key; Supplier Part Number 2: LMZ10503TZ-ADJCT-ND; Supplier 3: Digi-Key; Supplier Part Number 3: LMZ10503TZ-ADJDKR-ND; RoHS: Y; PinCount: 7; CompType: Switcher; ComponentLink1Description: LMZ10503 Datasheet; ComponentLink1URL: http://www.national.com/ds/LM/LMZ10503.pdf; ComponentLink2Description: LMZ10503 Web Page; ComponentLink2URL: http://www.national.com/pf/LM/LMZ10503.html; ComponentLink3Description: TZA07A Package Page; ComponentLink3URL: http://www.national.com/packaging/folders/tza07a.html
footprint TZA07A_V (D2-PAK, 8-Leads, Body 9.9x10.2mm, Pitch 1.27mm, Lead Span 13.8mm, NSC Recommended)
pins: 1 VIN (in), 2 EN (in), 3 SS, 4 GND (power), 5 FB (in), 6 VOUT (out), 7 VOUT (out), 8 EP

## LMZ10503TZE-ADJ/NOPB
designator U?
3A, SIMPLE SWITCHER® Power Module with 5.5V Maximum Input, 7 pin TO-PMOD; PartNumber: LMZ10503TZE-ADJ/NOPB; Manufacturer: National Semiconductor; PackageTopMarking: NSUZXYTTE#*LMZ10503*TZ-ADJ; PowerWise: N; Published: 16-Nov-2010; DatasheetVersion: Jun-2010; PackageVersion: revC, 2009; PackageReference: TZA07A; Publisher: Altium Limited; PackageDescription: TO-PMOD-7, 10.16 x 13.77 x 4.57 mm Body, 7 Lead, 1.27mm Pitch, Surface Mount; Supplier 1: Digi-Key; Supplier Part Number 1: LMZ10503TZE-ADJ/NOPB-ND; Supplier 2: Farnell; Supplier Part Number 2: 1821759; RoHS: Y; PinCount: 7; CompType: Switcher; ComponentLink1Description: LMZ10503 Datasheet; ComponentLink1URL: http://www.national.com/ds/LM/LMZ10503.pdf; ComponentLink2Description: LMZ10503 Web Page; ComponentLink2URL: http://www.national.com/pf/LM/LMZ10503.html; ComponentLink3Description: TZA07A Package Page; ComponentLink3URL: http://www.national.com/packaging/folders/tza07a.html
footprint TZA07A_V (D2-PAK, 8-Leads, Body 9.9x10.2mm, Pitch 1.27mm, Lead Span 13.8mm, NSC Recommended)
pins: 1 VIN (in), 2 EN (in), 3 SS, 4 GND (power), 5 FB (in), 6 VOUT (out), 7 VOUT (out), 8 EP

## LMZ10503TZX-ADJ/NOPB
designator U?
3A, SIMPLE SWITCHER® Power Module with 5.5V Maximum Input, 7 pin TO-PMOD; PartNumber: LMZ10503TZX-ADJ/NOPB; Manufacturer: National Semiconductor; PackageTopMarking: NSUZXYTTE#*LMZ10503*TZ-ADJ; PowerWise: Y; Published: 16-Nov-2010; DatasheetVersion: Jun-2010; PackageVersion: revC, 2009; PackageReference: TZA07A; Publisher: Altium Limited; PackageDescription: TO-PMOD-7, 10.16 x 13.77 x 4.57 mm Body, 7 Lead, 1.27mm Pitch, Surface Mount; Supplier 1: Digi-Key; Supplier Part Number 1: LMZ10503TZX-ADJ-ND; RoHS: Y; PinCount: 7; CompType: Switcher; ComponentLink1Description: LMZ10503 Datasheet; ComponentLink1URL: http://www.national.com/ds/LM/LMZ10503.pdf; ComponentLink2Description: LMZ10503 Web Page; ComponentLink2URL: http://www.national.com/pf/LM/LMZ10503.html; ComponentLink3Description: TZA07A Package Page; ComponentLink3URL: http://www.national.com/packaging/folders/tza07a.html
footprint TZA07A_V (D2-PAK, 8-Leads, Body 9.9x10.2mm, Pitch 1.27mm, Lead Span 13.8mm, NSC Recommended)
pins: 1 VIN (in), 2 EN (in), 3 SS, 4 GND (power), 5 FB (in), 6 VOUT (out), 7 VOUT (out), 8 EP

## LMZ10504EXTTZ/NOPB
designator U?
4A, SIMPLE SWITCHER® Power Module with 5.5V Maximum Input Voltage for Military and Rugged Applications, 7 pin TO-PMOD; PartNumber: LMZ10504EXTTZ/NOPB; Manufacturer: National Semiconductor; PackageTopMarking: NSUZXYTTE#*LMZ10504*EXT; PowerWise: Y; Published: 16-Nov-2010; DatasheetVersion: Jul-2010; PackageVersion: revC, 2009; PackageReference: TZA07A; Publisher: Altium Limited; PackageDescription: TO-PMOD-7, 10.16 x 13.77 x 4.57 mm Body, 7 Lead, 1.27mm Pitch, Surface Mount; Supplier 1: Digi-Key; Supplier Part Number 1: LMZ10504EXTTZ/NOPBTR-ND; Supplier 2: Digi-Key; Supplier Part Number 2: LMZ10504EXTTZ/NOPBCT-ND; Supplier 3: Digi-Key; Supplier Part Number 3: LMZ10504EXTTZ/NOPBDKR-ND; RoHS: Y; PinCount: 7; CompType: Switcher; ComponentLink1Description: LMZ10504EXT Datasheet; ComponentLink1URL: http://www.national.com/ds/LM/LMZ10504EXT.pdf; ComponentLink2Description: LMZ10504EXT Web Page; ComponentLink2URL: http://www.national.com/pf/LM/LMZ10504EXT.html; ComponentLink3Description: TZA07A Package Page; ComponentLink3URL: http://www.national.com/packaging/folders/tza07a.html
footprint TZA07A_V (D2-PAK, 8-Leads, Body 9.9x10.2mm, Pitch 1.27mm, Lead Span 13.8mm, NSC Recommended)
pins: 1 VIN (in), 2 EN (in), 3 SS, 4 GND (power), 5 FB (in), 6 VOUT (out), 7 VOUT (out), 8 EP

## LMZ10504EXTTZE/NOPB
designator U?
4A, SIMPLE SWITCHER® Power Module with 5.5V Maximum Input Voltage for Military and Rugged Applications, 7 pin TO-PMOD; PartNumber: LMZ10504EXTTZE/NOPB; Manufacturer: National Semiconductor; PackageTopMarking: NSUZXYTTE#*LMZ10504*EXT; PowerWise: Y; Published: 16-Nov-2010; DatasheetVersion: Jul-2010; PackageVersion: revC, 2009; PackageReference: TZA07A; Publisher: Altium Limited; PackageDescription: TO-PMOD-7, 10.16 x 13.77 x 4.57 mm Body, 7 Lead, 1.27mm Pitch, Surface Mount; Supplier 1: Digi-Key; Supplier Part Number 1: LMZ10504EXTTZE/NOPB-ND; RoHS: Y; PinCount: 7; CompType: Switcher; ComponentLink1Description: LMZ10504EXT Datasheet; ComponentLink1URL: http://www.national.com/ds/LM/LMZ10504EXT.pdf; ComponentLink2Description: LMZ10504EXT Web Page; ComponentLink2URL: http://www.national.com/pf/LM/LMZ10504EXT.html; ComponentLink3Description: TZA07A Package Page; ComponentLink3URL: http://www.national.com/packaging/folders/tza07a.html
footprint TZA07A_V (D2-PAK, 8-Leads, Body 9.9x10.2mm, Pitch 1.27mm, Lead Span 13.8mm, NSC Recommended)
pins: 1 VIN (in), 2 EN (in), 3 SS, 4 GND (power), 5 FB (in), 6 VOUT (out), 7 VOUT (out), 8 EP

## LMZ10504EXTTZX/NOPB
designator U?
4A, SIMPLE SWITCHER® Power Module with 5.5V Maximum Input Voltage for Military and Rugged Applications, 7 pin TO-PMOD; PartNumber: LMZ10504EXTTZX/NOPB; Manufacturer: National Semiconductor; PackageTopMarking: NSUZXYTTE#*LMZ10504*EXT; PowerWise: Y; Published: 16-Nov-2010; DatasheetVersion: Jul-2010; PackageVersion: revC, 2009; PackageReference: TZA07A; Publisher: Altium Limited; PackageDescription: TO-PMOD-7, 10.16 x 13.77 x 4.57 mm Body, 7 Lead, 1.27mm Pitch, Surface Mount; Supplier 1: Digi-Key; Supplier Part Number 1: LMZ10504EXTTZX/NOPB-ND; RoHS: Y; PinCount: 7; CompType: Switcher; ComponentLink1Description: LMZ10504EXT Datasheet; ComponentLink1URL: http://www.national.com/ds/LM/LMZ10504EXT.pdf; ComponentLink2Description: LMZ10504EXT Web Page; ComponentLink2URL: http://www.national.com/pf/LM/LMZ10504EXT.html; ComponentLink3Description: TZA07A Package Page; ComponentLink3URL: http://www.national.com/packaging/folders/tza07a.html
footprint TZA07A_V (D2-PAK, 8-Leads, Body 9.9x10.2mm, Pitch 1.27mm, Lead Span 13.8mm, NSC Recommended)
pins: 1 VIN (in), 2 EN (in), 3 SS, 4 GND (power), 5 FB (in), 6 VOUT (out), 7 VOUT (out), 8 EP

## LMZ10504TZ-ADJ/NOPB
designator U?
4A SIMPLE SWITCHER® Power Module with 5.5V Maximum Input Voltage, 7-pin TO-PMOD, Pb-Free; PartNumber: LMZ10504TZ-ADJ/NOPB; Manufacturer: National Semiconductor; PackageTopMarking: NSUZXYTTE#*LMZ10504*TZ-ADJ; PowerWise: Y; Published: 25-Jan-2010; DatasheetVersion: Jan-2010; PackageVersion: revC, 2009; PackageReference: TZA07A; Publisher: Altium Limited; PackageDescription: TO-PMOD-7, 10.16 x 13.77 x 4.57 mm Body, 7 Lead, 1.27mm Pitch, Surface Mount; Supplier 1: Digi-Key; Supplier Part Number 1: LMZ10504TZ-ADJTR-ND; Supplier 2: Digi-Key; Supplier Part Number 2: LMZ10504TZ-ADJCT-ND; Supplier 3: Digi-Key; Supplier Part Number 3: LMZ10504TZ-ADJDKR-ND; Supplier 4: Farnell; Supplier Part Number 4: 1780280; RoHS: Y; PinCount: 8; CompType: Switcher; ComponentLink1Description: LMZ10504 Datasheet; ComponentLink1URL: http://www.national.com/ds/LM/LMZ10504.pdf; ComponentLink2Description: LMZ10504 Web Page; ComponentLink2URL: http://www.national.com/pf/LM/LMZ10504.html; ComponentLink3Description: TZA07A Package Page; ComponentLink3URL: http://www.national.com/packaging/folders/tza07a.html
footprint TZA07A_V (D2-PAK, 8-Leads, Body 9.9x10.2mm, Pitch 1.27mm, Lead Span 13.8mm, NSC Recommended)
pins: 1 VIN (in), 2 EN (in), 3 SS, 4 GND (power), 5 FB (in), 6 VOUT (out), 7 VOUT (out), 8 EP

## LMZ10504TZE-ADJ/NOPB
designator U?
4A SIMPLE SWITCHER® Power Module with 5.5V Maximum Input, 7 pin TO-PMOD, Pb-Free; PartNumber: LMZ10504TZE-ADJ/NOPB; Manufacturer: National Semiconductor; PackageTopMarking: NSUZXYTTE#*LMZ10504*TZ-ADJ; PowerWise: N; Published: 1-Mar-2010; DatasheetVersion: Jan-2010; PackageVersion: revC, 2009; PackageReference: TZA07A; Publisher: Altium Limited; PackageDescription: TO-PMOD-7, 10.16 x 13.77 x 4.57 mm Body, 7 Lead, 1.27mm Pitch, Surface Mount; Supplier 1: Digi-Key; Supplier Part Number 1: LMZ10504TZE-ADJ/NOPB-ND; RoHS: Y; PinCount: 7; CompType: Switcher; ComponentLink1Description: LMZ10504 Datasheet; ComponentLink1URL: http://www.national.com/ds/LM/LMZ10504.pdf; ComponentLink2Description: LMZ10504 Web Page; ComponentLink2URL: http://www.national.com/pf/LM/LMZ10504.html; ComponentLink3Description: TZA07A Package Page; ComponentLink3URL: http://www.national.com/packaging/folders/tza07a.html
footprint TZA07A_V (D2-PAK, 8-Leads, Body 9.9x10.2mm, Pitch 1.27mm, Lead Span 13.8mm, NSC Recommended)
pins: 1 VIN (in), 2 EN (in), 3 SS, 4 GND (power), 5 FB (in), 6 VOUT (out), 7 VOUT (out), 8 EP

## LMZ10504TZX-ADJ/NOPB
designator U?
4A SIMPLE SWITCHER® Power Module with 5.5V Maximum Input Voltage, 7-pin TO-PMOD, Pb-Free; PartNumber: LMZ10504TZX-ADJ/NOPB; Manufacturer: National Semiconductor; PackageTopMarking: NSUZXYTTE#*LMZ10504*TZ-ADJ; PowerWise: Y; Published: 25-Jan-2010; DatasheetVersion: Jan-2010; PackageVersion: revC, 2009; PackageReference: TZA07A; Publisher: Altium Limited; PackageDescription: TO-PMOD-7, 10.16 x 13.77 x 4.57 mm Body, 7 Lead, 1.27mm Pitch, Surface Mount; Supplier 1: Digi-Key; Supplier Part Number 1: LMZ10504TZX-ADJ-ND; Supplier 2: Farnell; Supplier Part Number 2: 1780282; RoHS: Y; PinCount: 8; CompType: Switcher; ComponentLink1Description: LMZ10504 Datasheet; ComponentLink1URL: http://www.national.com/ds/LM/LMZ10504.pdf; ComponentLink2Description: LMZ10504 Web Page; ComponentLink2URL: http://www.national.com/pf/LM/LMZ10504.html; ComponentLink3Description: TZA07A Package Page; ComponentLink3URL: http://www.national.com/packaging/folders/tza07a.html
footprint TZA07A_V (D2-PAK, 8-Leads, Body 9.9x10.2mm, Pitch 1.27mm, Lead Span 13.8mm, NSC Recommended)
pins: 1 VIN (in), 2 EN (in), 3 SS, 4 GND (power), 5 FB (in), 6 VOUT (out), 7 VOUT (out), 8 EP

## LMZ10505EXTTZ/NOPB
designator U?
5A SIMPLE SWITCHER® Power Module with 5.5V Maximum Input Voltage for Military and Rugged Applications, 7 pin TO-PMOD; PartNumber: LMZ10505EXTTZ/NOPB; Manufacturer: National Semiconductor; PackageTopMarking: NSUZXYTTE#*LMZ10505*EXT; PowerWise: Y; Published: 16-Nov-2010; DatasheetVersion: Jul-2010; PackageVersion: revC, 2009; PackageReference: TZA07A; Publisher: Altium Limited; PackageDescription: TO-PMOD-7, 10.16 x 13.77 x 4.57 mm Body, 7 Lead, 1.27mm Pitch, Surface Mount; Supplier 1: Digi-Key; Supplier Part Number 1: LMZ10505EXTTZ/NOPBTR-ND; Supplier 2: Digi-Key; Supplier Part Number 2: LMZ10505EXTTZ/NOPBCT-ND; Supplier 3: Digi-Key; Supplier Part Number 3: LMZ10505EXTTZ/NOPBDKR-ND; RoHS: Y; PinCount: 7; CompType: Switcher; ComponentLink1Description: LMZ10505EXT Datasheet; ComponentLink1URL: http://www.national.com/ds/LM/LMZ10505EXT.pdf; ComponentLink2Description: LMZ10505EXT Web Page; ComponentLink2URL: http://www.national.com/pf/LM/LMZ10505EXT.html; ComponentLink3Description: TZA07A Package Page; ComponentLink3URL: http://www.national.com/packaging/folders/tza07a.html
footprint TZA07A_V (D2-PAK, 8-Leads, Body 9.9x10.2mm, Pitch 1.27mm, Lead Span 13.8mm, NSC Recommended)
pins: 1 VIN (in), 2 EN (in), 3 SS, 4 GND (power), 5 FB (in), 6 VOUT (out), 7 VOUT (out), 8 EP

## LMZ10505EXTTZE/NOPB
designator U?
5A SIMPLE SWITCHER® Power Module with 5.5V Maximum Input Voltage for Military and Rugged Applications, 7 pin TO-PMOD; PartNumber: LMZ10505EXTTZE/NOPB; Manufacturer: National Semiconductor; PackageTopMarking: NSUZXYTTE#*LMZ10505*EXT; PowerWise: Y; Published: 16-Nov-2010; DatasheetVersion: Jul-2010; PackageVersion: revC, 2009; PackageReference: TZA07A; Publisher: Altium Limited; PackageDescription: TO-PMOD-7, 10.16 x 13.77 x 4.57 mm Body, 7 Lead, 1.27mm Pitch, Surface Mount; Supplier 1: Digi-Key; Supplier Part Number 1: LMZ10505EXTTZE/NOPB-ND; RoHS: Y; PinCount: 7; CompType: Switcher; ComponentLink1Description: LMZ10505EXT Datasheet; ComponentLink1URL: http://www.national.com/ds/LM/LMZ10505EXT.pdf; ComponentLink2Description: LMZ10505EXT Web Page; ComponentLink2URL: http://www.national.com/pf/LM/LMZ10505EXT.html; ComponentLink3Description: TZA07A Package Page; ComponentLink3URL: http://www.national.com/packaging/folders/tza07a.html
footprint TZA07A_V (D2-PAK, 8-Leads, Body 9.9x10.2mm, Pitch 1.27mm, Lead Span 13.8mm, NSC Recommended)
pins: 1 VIN (in), 2 EN (in), 3 SS, 4 GND (power), 5 FB (in), 6 VOUT (out), 7 VOUT (out), 8 EP